# EAGLE library part 74LVC2G04 (library yapo)
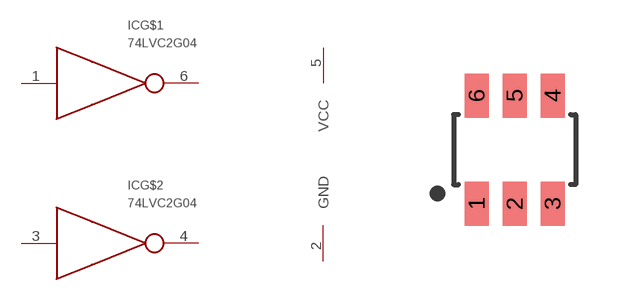
[diagram p77: symbol with the pads of SOT23-6; footprint SOT23-6]

Designator prefix IC; gates G$1=INVERTER-NO-SUPPLY G$2=INVERTER-NO-SUPPLY G$3=LOGIC-SUPPLY

## 74LVC2G04  [SOT23-6]
1  G$1:IN
2  G$3:GND
3  G$2:IN
4  G$2:OUT
5  G$3:VCC
6  G$1:OUT

## Footprint SOT23-6 (pad centres in mm)
smd 0.6 x 1.1: 1 -0.95,-1.35; 2 0,-1.35; 3 0.95,-1.35; 4 0.95,1.35; 5 0,1.35; 6 -0.95,1.35